# Altium integrated library eitp15_lab1_lib.IntLib: 14 symbols
Pins are listed as number, name and electrical type; pins without a type are passive.

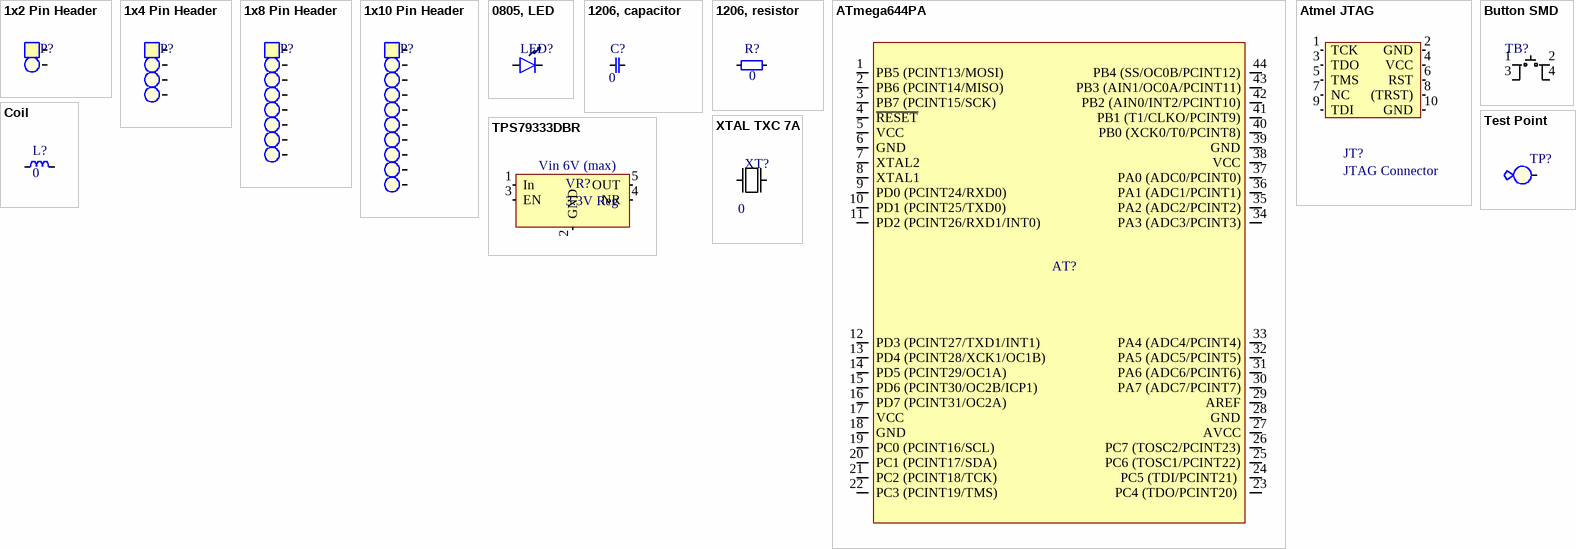
[diagram p0: symbols 1x2 Pin Header to XTAL TXC 7A]

## 1x2 Pin Header
designator P?  (value not drawn)
2.54 mm, TH; Value: 1x2 Pin Header
footprint 1x2HEADER (Pad Diameter 2 mm, Hole  1 mm, Pitch 2.54 mm)
pins: 1, 2

## 1x4 Pin Header
designator P?  (value not drawn)
2.54 mm, TH; Value: 1x2 Pin Header
footprint 1x4HEADER (Pad Diameter 2 mm, Hole  1 mm, Pitch 2.54 mm)
pins: 1, 2, 3, 4

## 1x8 Pin Header
designator P?  (value not drawn)
2.54 mm, TH; Value: 1x2 Pin Header
footprint 1x8HEADER (Pad Diameter 2 mm, Hole  1 mm, Pitch 2.54 mm)
pins: 1, 2, 3, 4, 5, 6, 7, 8

## 1x10 Pin Header
designator P?  (value not drawn)
2.54 mm, TH; Value: 1x2 Pin Header
footprint 1x10HEADER (Pad Diameter 2 mm, Hole  1 mm, Pitch 2.54 mm)
pins: 1, 2, 3, 4, 5, 6, 7, 8, 9, 10

## 0805, LED
designator LED?  (value not drawn)
Value: 0805 LED
footprint 0805_led
pins: 0 Cathode, 1

## 1206, capacitor
designator C?  value 0  (hidden comment: *)
footprint 1206, capasitor (Generic 1206)
pins: 0, 1

## 1206, resistor
designator R?  value 0  (hidden comment: *)
Resistor
footprint 1206 (Generic 1206)
pins: 0, 1

## ATmega644PA
designator AT?
ATmega644PA - Small but big and PicoPower; Farnell: 2484915; Value: ATmega644PA
footprint TQFP-44 (QFP, 44-Leads, Body 10,00x10,00mm, Pitch 0,80mm, IPC Medium Density)
pins: 1 PB5 (PCINT13/MOSI) , 2 PB6 (PCINT14/MISO) , 3 PB7 (PCINT15/SCK) , 4 ~{RESET}, 5 VCC, 6 GND, 7 XTAL2, 8 XTAL1, 9 PD0 (PCINT24/RXD0) , 10 PD1 (PCINT25/TXD0) , 11 PD2 (PCINT26/RXD1/INT0) , 12 PD3 (PCINT27/TXD1/INT1) , 13 PD4 (PCINT28/XCK1/OC1B) , 14 PD5 (PCINT29/OC1A) , 15 PD6 (PCINT30/OC2B/ICP1) , 16 PD7 (PCINT31/OC2A) , 17 VCC, 18 GND, 19 PC0 (PCINT16/SCL) , 20 PC1 (PCINT17/SDA) , 21 PC2 (PCINT18/TCK) , 22 PC3 (PCINT19/TMS) , 23 PC4 (TDO/PCINT20) , 24 PC5 (TDI/PCINT21) , 25 PC6 (TOSC1/PCINT22), 26 PC7 (TOSC2/PCINT23), 27 AVCC, 28 GND, 29 AREF, 30 PA7 (ADC7/PCINT7), 31 PA6 (ADC6/PCINT6), 32 PA5 (ADC5/PCINT5), 33 PA4 (ADC4/PCINT4), 34 PA3 (ADC3/PCINT3), 35 PA2 (ADC2/PCINT2), 36 PA1 (ADC1/PCINT1), 37 PA0 (ADC0/PCINT0), 38 VCC, 39 GND, 40 PB0 (XCK0/T0/PCINT8), 41 PB1 (T1/CLKO/PCINT9), 42 PB2 (AIN0/INT2/PCINT10), 43 PB3 (AIN1/OC0A/PCINT11), 44 PB4 (SS/OC0B/PCINT12)

## Atmel JTAG
designator JT?, comment JTAG Connector
Atmel JTAG Connector
footprint Atmel_JTAG
pins: 1 TCK, 2 GND, 3 TDO, 4 VCC, 5 TMS, 6 RST, 7 NC, 8 (TRST), 9 TDI, 10 GND

## Button SMD
designator TB?, comment Tactile Button  (value not drawn)
Tactile Switch Small Low; Value: Button SMD; ELFA: 110-87-406
footprint Button smd
pins: 1, 2, 3, 4

## Coil
designator L?  value 0  (hidden comment: *)
footprint 1812, coil
footprint 1210, Res
pins: 1, 2

## Test Point
designator TP?  (value not drawn)
Value: Test point; Farnell: 1702006
footprint testPoint (Diameter 2mm, Hole 0.3mm)
pins: 0

## TPS79333DBR
designator VR?, comment 3.3V Reg  Input Voltage: Vin 6V (max)
3.3V Reg, Ultra-Low Noise, 200 mA; Value: TPS79333DBVR; Drop Out: 102mV; Farnell: 1287689
footprint SOT23-5 (SOT23, 5-Leads, Body 2,90x2,80mm, Pitch 0,95mm, IPC Medium Density)
pins: 1 In, 2 GND, 3 EN, 4 NR, 5 OUT

## XTAL TXC 7A
designator XT?  value 0  (hidden comment: *)
16 MHz, SMD, 5mm x 3,2mm, 30 ppm; Farnell: 1841946
footprint XTAL_SMD_LP (Pad 1.7x2.4, Pitch 3.7)
pins: 1, 2